# Altium schematic symbol library FUSE-FUSE.SchLib: 2 symbols
Pins are listed as number, name and electrical type; pins without a type are passive.

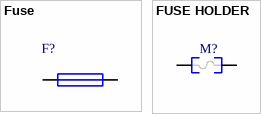
[diagram p0: symbols Fuse to FUSE HOLDER]

## Fuse
designator F?
pins: 1, 2

## FUSE HOLDER
designator M?
pins: 1, 2